# EAGLE library part IRF7317 (library MAX9812)
International Rectifier's IRF7317 HEXFET® Power MOSFET Description: Fifth Generation HEXFETs from International Rectifier utilize advanced processing techniques to achieve extremely low on-resistance per silicon area. This benefit, combined with the fast switching speed and ruggedized device design that HEXFET Power MOSFETs are well known for, provides the designer with an extremely efficient and reliable device for use in a wide variety of applications. The SO-8 has been modified through a customized leadframe for enhanced thermal characteristics and multiple-die capability making it ideal in a variety of power applications. With these improvements, multiple devices can be used in an application with dramatically reduced board space. The package is designed for vapor phase, infra red, or wave soldering techniques. Features: Generation V Technology Ultra Low On-Resistance Dual N and P Channel MOSFET Surface Mount Fully Avalanche Rated Please send any comments to: messi@users.sourceforge.net
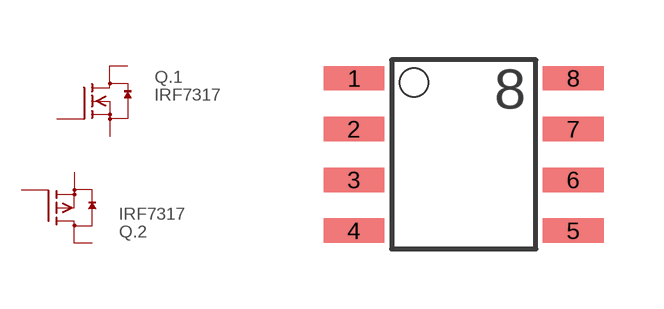
[diagram p79: symbol with the pads of SO-8; footprint SO-8]

Designator prefix Q; gates .1=IGFET-4-N-CH .2=IGFET-4-P-CH

## IRF7317  [SO-8]
1  .1:S  pas
2  .1:G  pas
3  .2:S  pas
4  .2:G  pas
5  .2:D  pas
6  .2:D  pas
7  .1:D  pas
8  .1:D  pas

## Footprint SO-8 (pad centres in mm)
small outline
smd 1.524 x 0.61: 1 -2.743,1.27; 2 -2.743,0; 3 -2.743,-1.27; 4 -2.743,-2.54; 5 2.743,-2.54; 6 2.743,-1.27; 7 2.743,0; 8 2.743,1.27